# Altium footprint library Smoke_detector.PcbLib: 15 footprints
Each footprint in its own frame and in the unit in brackets; x right, y up, seen from the top. Pads: shape width x height; smd on the part's side, far side on the other; paste and mask are expansions set on the pad; w line width, h text height; cw(c..) or ccw(c..) is an arc to the next point about the centre after c.
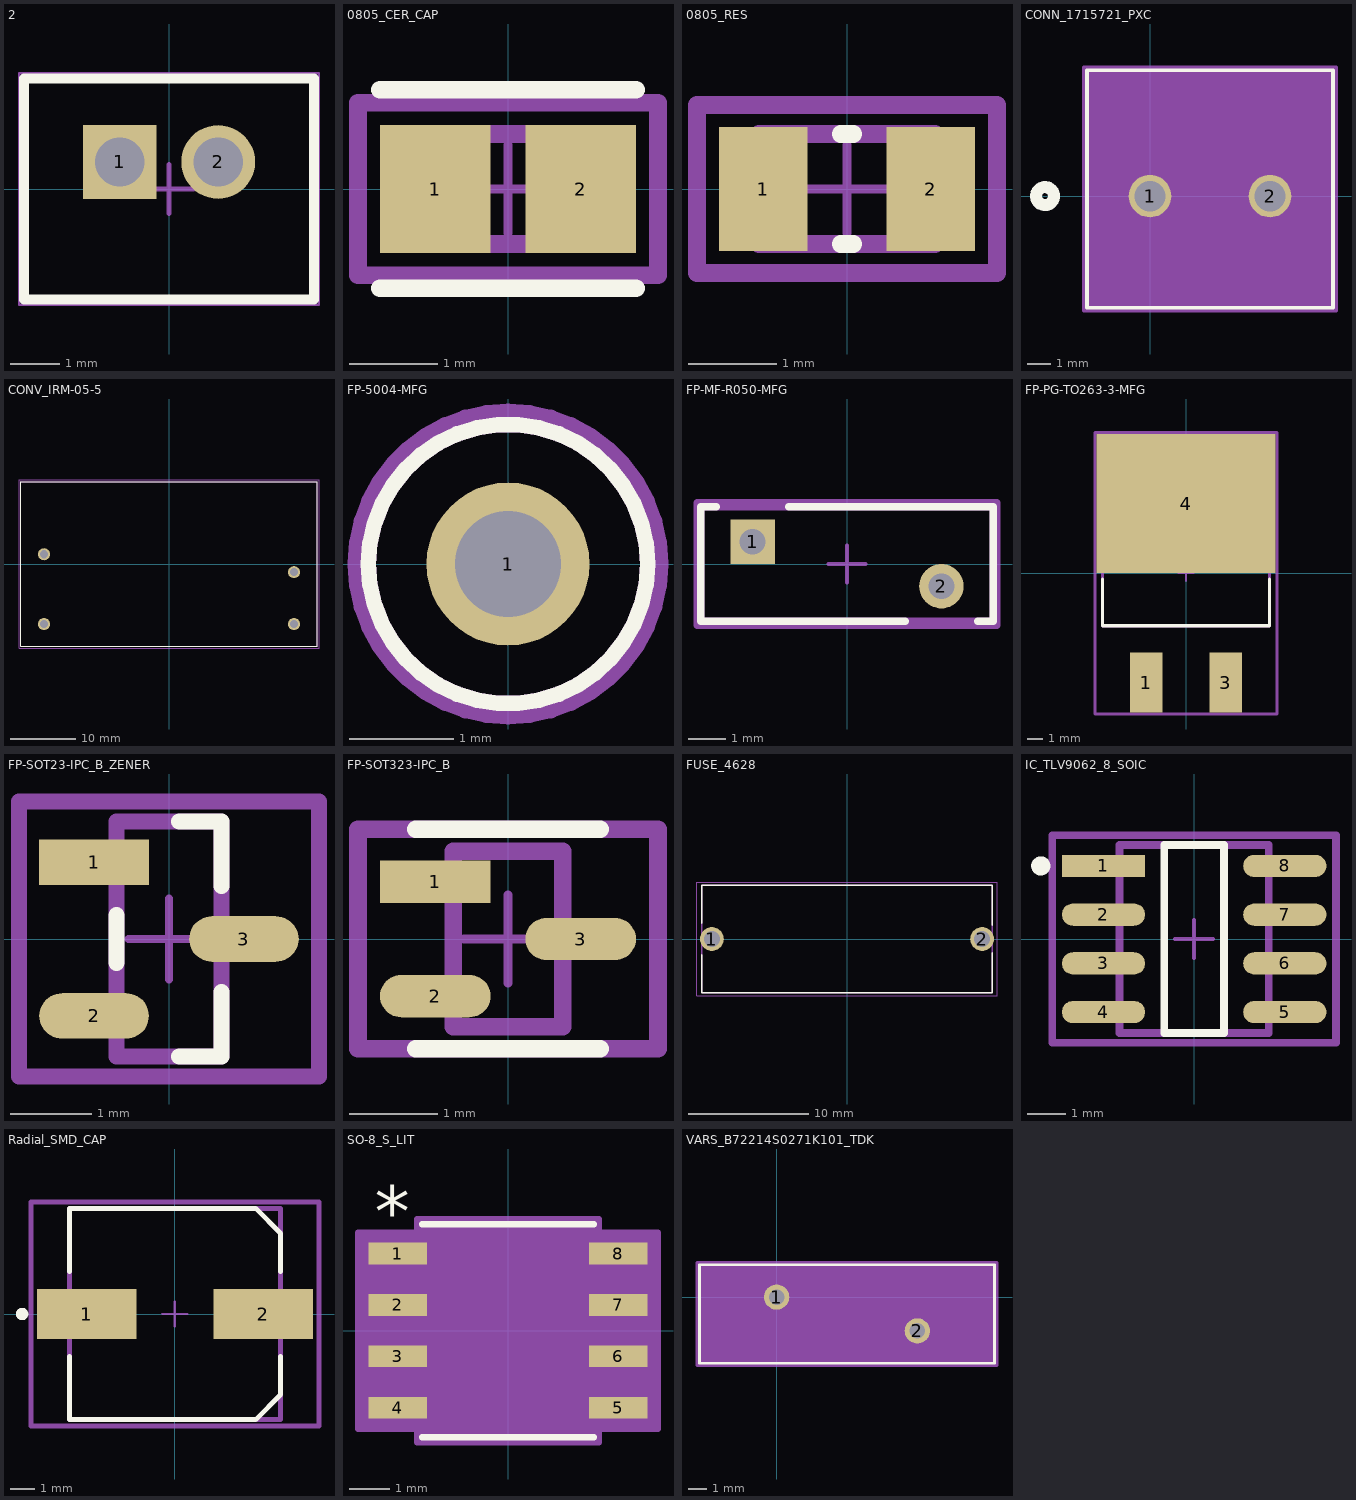
[diagram p0: the footprints below, top view; thin cyan lines are the x and y axes]

## 2 [mm] "Connector, 2-Leads, Body 5.9x4.5mm, Pitch 2mm"
height 6
pads (2):
  rect 1.5x1.5 hole 1: 1(-1,0.55)
  round 1.5 hole 1: 2(1,0.55)
Top Overlay:
  lines w0.2: -2.95,-2.25 2.95,-2.25 2.95,2.25 -2.95,2.25 -2.95,-2.25
Top 3D Body:
  lines w0.1: -2.95,-2.25 -2.95,2.25 2.95,2.25 2.95,-2.25 -2.95,-2.25
Top Courtyard:
  lines w0.05: -3.05,-2.35 -3.05,2.35 3.05,2.35 3.05,-2.35 -3.05,-2.35
  lines w0.1: -0.5,0 0.5,0 ; 0,-0.5 0,0.5
3D body: height 6, standoff 0, extent -2.949,-2.249 2.949,2.249
3D body: height 0, standoff -3.4, extent -1.249,0.301 -0.751,0.799
3D body: height 0, standoff -3.4, extent 0.75,0.301 1.249,0.8

## 0805_CER_CAP [mm]
pads (2):
  rect 1.255x1.456 smd paste+0 mask+0: 1(-0.826,0) 2(0.826,0)
Top Overlay:
  lines w0.2: -1.453,-1.128 1.453,-1.128 ; -1.453,1.128 1.453,1.128
Top Assembly:
  lines w0.2: -1.703,-0.978 1.703,-0.978 1.703,0.978 -1.703,0.978 -1.703,-0.978
Top 3D Body:
  lines w0.2: -1,-0.625 1,-0.625 1,0.625 -1,0.625 -1,-0.625
Top Courtyard:
  lines w0.2: -1.703,-0.978 1.703,-0.978 1.703,0.978 -1.703,0.978 -1.703,-0.978
Top Component Center:
  lines w0.1: -0.5,0 0.5,0 ; 0,-0.5 0,0.5
3D body "Cap_Murata_GRM21BC71C106KE11L_eec.STEP": height 0.25, standoff 0, extent -1.703,-0.978 1.703,0.978

## 0805_RES [mm]
pads (2):
  rect 1.007x1.408 smd paste+0 mask+0: 1(-0.951,0) 2(0.951,0)
Top Overlay:
  lines w0.2: -0.073,-0.625 0.073,-0.625 ; -0.073,0.625 0.073,0.625
Top Assembly:
  lines w0.2: -1.704,-0.954 -1.704,0.954 1.704,0.954 1.704,-0.954 -1.704,-0.954
Top 3D Body:
  lines w0.2: -1,-0.625 -1,0.625 1,0.625 1,-0.625 -1,-0.625
Top Courtyard:
  lines w0.2: -1.704,-0.954 -1.704,0.954 1.704,0.954 1.704,-0.954 -1.704,-0.954
Top Component Center:
  lines w0.1: -0.5,0 0.5,0 ; 0,-0.5 0,0.5
3D body "Res_Vishay_Dale_CRCW08055K23FKTA_eec.STEP": height 0.25, standoff 0, extent -1.704,-0.954 1.704,0.954

## CONN_1715721_PXC [mil]
pads (2):
  round 71 / inner round 60 / far side round 71 hole 51 paste-99999 mask+0: 1(0,0) 2(200,0)
Top Overlay:
  circle w20: c-175,0 r15
  lines w6: -105,-186.1 -105,209.72 305,209.72 305,-186.1 -105,-186.1
Bottom Overlay:
  circle w20: c-175,0 r15
Top 3D Body:
  circle w20: c0,75 r15
  lines w1: -100,-181.1 -100,204.72 300,204.72 300,-181.1 -100,-181.1
Top Courtyard:
  region: 310,214.72 -110,214.72 -110,-191.1 310,-191.1
  lines w6: -110,-191.1 310,-191.1 310,214.72 -110,214.72 -110,-191.1

## CONV_IRM-05-5 [mm]
pads (4):
  round 1.86 hole 1.24: AC/L(-19.25,-9.25) AC/N(-19.25,1.5) VNEG(19.25,-9.25) VPOS(19.25,-1.25)
Top Overlay:
  lines w0.127: -22.85,-12.7 22.85,-12.7 22.85,12.7 -22.85,12.7 -22.85,-12.7
Top 3D Body:
  lines w0.127: -22.85,-12.7 22.85,-12.7 22.85,12.7 -22.85,12.7 -22.85,-12.7
Top Courtyard:
  lines w0.05: -23.1,-12.95 23.1,-12.95 23.1,12.95 -23.1,12.95 -23.1,-12.95

## FP-5004-MFG [mm]
pads (1):
  round 1.57 hole 1.02 paste-2539.97 mask+0: 1(0,0)
Top Overlay:
  circle w0.15: c0,0 r1.345
Top Assembly:
  text ".Designator" at 0,0.189 h1
Top 3D Body:
  circle w0.15: c0,0 r1.345
Top Courtyard:
  lines w0.2: -1.445,0 cw(c0,0) 1.445,0 cw(c0,0) -1.445,0
Top Component Center:
  lines w0.1: -0.5,0 0.5,0 ; 0,-0.5 0,0.5
3D body "Conn_Keystone_5004_eec.STEP": height 0.25, standoff 0, extent -1.445,-1.445 1.445,1.445

## FP-MF-R050-MFG [mm]
pads (2):
  rect 1.2x1.2 hole 0.7 paste-2539.97 mask+0: 1(-2.55,0.6)
  round 1.2 hole 0.7 paste-2539.97 mask+0: 2(2.55,-0.6)
Top Overlay:
  lines w0.2: -3.525,1.55 -3.95,1.55 -3.95,-1.55 1.575,-1.55 ; -1.575,1.55 3.95,1.55 3.95,-1.55 3.525,-1.55
Top Assembly:
  lines w0.2: -4.05,-1.65 -4.05,1.65 4.05,1.65 4.05,-1.65 -4.05,-1.65
  text ".Designator" at 0,0.189 h1
Top 3D Body:
  lines w0.2: -3.95,-1.55 -3.95,1.55 3.95,1.55 3.95,-1.55 -3.95,-1.55
Top Courtyard:
  lines w0.2: -4.05,-1.65 -4.05,1.65 4.05,1.65 4.05,-1.65 -4.05,-1.65
Top Component Center:
  lines w0.1: -0.5,0 0.5,0 ; 0,-0.5 0,0.5
3D body "Fuse_Bourns_MF-R050_eec.STEP": height 0.25, standoff 0, extent -4.05,-1.65 4.05,1.65

## FP-PG-TO263-3-MFG [mm]
pads (3):
  rect 2.08x3.81 smd paste+0 mask+0: 1(-2.54,-6.985) 3(2.54,-6.985)
  rect 11.43x8.89 smd paste+0 mask+0: 4(0,4.445)
Top Overlay:
  lines w0.2: -5.335,-0.375 -5.335,-3.36 5.335,-3.36 5.335,-0.375
Top Assembly:
  lines w0.2: -5.815,-8.99 5.815,-8.99 5.815,8.99 -5.815,8.99 -5.815,-8.99
  text ".Designator" at 0,0 h1
Top 3D Body:
  lines w0.2: -5.335,-3.36 5.335,-3.36 5.335,6.29 -5.335,6.29 -5.335,-3.36
Top Courtyard:
  lines w0.2: -5.815,-8.99 5.815,-8.99 5.815,8.99 -5.815,8.99 -5.815,-8.99
Top Component Center:
  lines w0.1: -0.5,0 0.5,0 ; 0,-0.5 0,0.5
3D body "Trans_Infineon_IRF2805STRLPBF_eec.STEP": height 0.25, standoff 0, extent -5.815,-8.99 5.815,8.99

## FP-SOT23-IPC_B_ZENER [mm]
pads (3):
  rect 1.355x0.562 smd paste+0 mask+0: 1(-0.925,0.95)
  rrect100% 1.355x0.562 smd paste+0 mask+0: 2(-0.925,-0.95) 3(0.925,0)
Top Overlay:
  lines w0.2: -0.65,-0.294 -0.65,0.294 ; 0.127,-1.45 0.65,-1.45 0.65,-0.656 ; 0.127,1.45 0.65,1.45 0.65,0.656
Top Assembly:
  lines w0.2: -1.853,-1.7 1.853,-1.7 1.853,1.7 -1.853,1.7 -1.853,-1.7
Top 3D Body:
  lines w0.2: -0.65,-1.45 0.65,-1.45 0.65,1.45 -0.65,1.45 -0.65,-1.45
Top Courtyard:
  lines w0.2: -1.853,-1.7 1.853,-1.7 1.853,1.7 -1.853,1.7 -1.853,-1.7
Top Component Center:
  lines w0.1: -0.5,0 0.5,0 ; 0,-0.5 0,0.5
3D body "Diode_Nexperia_BZX84-C3V3_215_eec.STEP": height 0.25, standoff 0, extent -1.853,-1.7 1.853,1.7

## FP-SOT323-IPC_B [mm]
pads (3):
  rect 1.259x0.482 smd paste+0 mask+0: 1(-0.827,0.65)
  rrect100% 1.259x0.482 smd paste+0 mask+0: 2(-0.827,-0.65) 3(0.827,0)
Top Overlay:
  lines w0.2: -1.05,-1.25 1.05,-1.25 ; -1.05,1.25 1.05,1.25
Top Assembly:
  lines w0.2: -1.706,-1.25 -1.706,1.25 1.706,1.25 1.706,-1.25 -1.706,-1.25
Top 3D Body:
  lines w0.2: -0.625,-1 -0.625,1 0.625,1 0.625,-1 -0.625,-1
Top Courtyard:
  lines w0.2: -1.706,-1.25 -1.706,1.25 1.706,1.25 1.706,-1.25 -1.706,-1.25
Top Component Center:
  lines w0.1: -0.5,0 0.5,0 ; 0,-0.5 0,0.5
3D body "Trans_Nexperia_BC847BW_115_eec.STEP": height 0.25, standoff 0, extent -1.706,-1.25 1.706,1.25

## FUSE_4628 [mm]
height 11.99
pads (2):
  round 1.98 hole 1.32: 1(-11.25,0) 2(11.25,0)
Top Overlay:
  lines w0.127: -12.105,-1.32 -12.105,-4.495 12.105,-4.495 12.105,-1.15 ; -12.105,1.32 -12.105,4.495 12.105,4.495 12.105,1.15
Top 3D Body:
  lines w0.127: -12.105,-4.495 12.105,-4.495 12.105,4.495 -12.105,4.495 -12.105,-4.495
Top Courtyard:
  lines w0.05: -12.49,-4.745 12.49,-4.745 12.49,4.745 -12.49,4.745 -12.49,-4.745
3D body "step_temp.STEP": height 11.99, standoff -3.96, extent -12.103,-4.496 12.103,4.496

## IC_TLV9062_8_SOIC [mm]
pads (8):
  rect 2.169x0.582 smd paste+0 mask+0: 1(-2.364,1.905)
  rrect100% 2.169x0.582 smd paste+0 mask+0: 2(-2.364,0.635) 3(-2.364,-0.635) 4(-2.364,-1.905) 5(2.364,-1.905) 6(2.364,-0.635) 7(2.364,0.635) 8(2.364,1.905)
Top Overlay:
  circle w0.25: c-3.998,1.905 r0.125
  lines w0.2: -0.779,-2.452 -0.779,2.452 0.779,2.452 0.779,-2.452 -0.779,-2.452
Top Assembly:
  lines w0.2: -3.698,-2.702 -3.698,2.702 3.698,2.702 3.698,-2.702 -3.698,-2.702
  text ".Designator" at 0,0.189 h1
Top 3D Body:
  lines w0.2: -1.947,-2.452 -1.947,2.452 1.947,2.452 1.947,-2.452 -1.947,-2.452
Top Courtyard:
  lines w0.2: -3.698,-2.702 -3.698,2.702 3.698,2.702 3.698,-2.702 -3.698,-2.702
Top Component Center:
  lines w0.1: -0.5,0 0.5,0 ; 0,-0.5 0,0.5
3D body "IC_Texas_Instruments_ISO7220ADR_eec.STEP": height 0.25, standoff 0, extent -3.698,-2.702 3.698,2.702

## Radial_SMD_CAP [mm]
pads (2):
  rect 4x2 smd paste+0 mask+0: 1(-3.55,0) 2(3.55,0)
Top Overlay:
  circle w0.25: c-6.15,0 r0.125
  lines w0.2: -4.25,-1.7 -4.25,-4.25 3.25,-4.25 4.25,-3.25 4.25,-1.7 ; -4.25,1.7 -4.25,4.25 3.25,4.25 4.25,3.25 4.25,1.7
Top Assembly:
  lines w0.2: -5.8,-4.5 -5.8,4.5 5.8,4.5 5.8,-4.5 -5.8,-4.5
Top 3D Body:
  lines w0.2: -4.25,-4.25 -4.25,4.25 4.25,4.25 4.25,-4.25 -4.25,-4.25
Top Courtyard:
  lines w0.2: -5.8,-4.5 -5.8,4.5 5.8,4.5 5.8,-4.5 -5.8,-4.5
Top Component Center:
  lines w0.1: -0.5,0 0.5,0 ; 0,-0.5 0,0.5
3D body "Cap_Panasonic_Electronic_Components_EEE-FK1H101GP_eec.STEP": height 0.25, standoff 0, extent -5.8,-4.5 5.8,4.5

## SO-8_S_LIT [mm]
pads (8):
  rect 1.455x0.533 smd paste+0 mask+0: 1(-2.721,1.905) 2(-2.721,0.635) 3(-2.721,-0.635) 4(-2.721,-1.905) 5(2.721,-1.905) 6(2.721,-0.635) 7(2.721,0.635) 8(2.721,1.905)
Top Overlay:
  lines w0.152: -2.121,-2.629 2.121,-2.629 ; -2.121,2.629 2.121,2.629
  text "*" at -3.293,2.311 h1.27
Top 3D Body:
  lines w0.025: -0.305,2.502 ccw(c0,2.502) 0.305,2.502 ; -3.099,-2.146 -3.099,-1.664 -1.994,-1.664 -1.994,-2.146 -3.099,-2.146 ; -3.099,-0.876 -3.099,-0.394 -1.994,-0.394 -1.994,-0.876 -3.099,-0.876 ; -3.099,0.394 -3.099,0.876 -1.994,0.876 -1.994,0.394 -3.099,0.394 ; -3.099,1.664 -3.099,2.146 -1.994,2.146 -1.994,1.664 -3.099,1.664 ; -1.994,-2.502 1.994,-2.502 1.994,2.502 -1.994,2.502 -1.994,-2.502 ; 1.994,-2.146 1.994,-1.664 3.099,-1.664 3.099,-2.146 1.994,-2.146 ; 1.994,-0.876 1.994,-0.394 3.099,-0.394 3.099,-0.876 1.994,-0.876 ; 1.994,0.394 1.994,0.876 3.099,0.876 3.099,0.394 1.994,0.394 ; 1.994,1.664 1.994,2.146 3.099,2.146 3.099,1.664 1.994,1.664
  text "*" at -1.93,1.156 h1.27
Top Courtyard:
  region: -2.248,-2.425 -3.703,-2.425 -3.703,2.425 -2.248,2.425 -2.248,2.756 2.248,2.756 2.248,2.425 3.703,2.425 3.703,-2.425 2.248,-2.425 2.248,-2.756 -2.248,-2.756
  lines w0.152: -3.703,-2.425 -3.703,2.425 -2.248,2.425 -2.248,2.756 2.248,2.756 2.248,2.425 3.703,2.425 3.703,-2.425 2.248,-2.425 2.248,-2.756 -2.248,-2.756 -2.248,-2.425 -3.703,-2.425
3D body "SO-8_S_LIT.step": height 1.76, standoff 0, extent -3.099,-2.502 3.099,2.502

## VARS_B72214S0271K101_TDK [mil]
pads (2):
  round 53 hole 33 paste-99999 mask+0: 1(0,0) 2(295.28,-70.87)
Top Overlay:
  lines w6: -162.36,-138.93 -162.36,68.07 457.64,68.07 457.64,-138.93 -162.36,-138.93
Top 3D Body:
  lines w1: -157.36,24.07 -118.36,63.07 ; -157.36,-133.93 -157.36,63.07 452.64,63.07 452.64,-133.93 -157.36,-133.93
Top Courtyard:
  region: 452.64,-133.93 -157.36,-133.93 -157.36,63.07 452.64,63.07
  region: 462.64,-143.93 -167.36,-143.93 -167.36,73.07 462.64,73.07
  lines w6: -167.36,-143.93 462.64,-143.93 462.64,73.07 -167.36,73.07 -167.36,-143.93
3D body "VARS_B72214S0271K101_TDK.step": height 610, standoff -250, extent -160,-135 450,62.01